# EAGLE library part SE4150L (library gps)
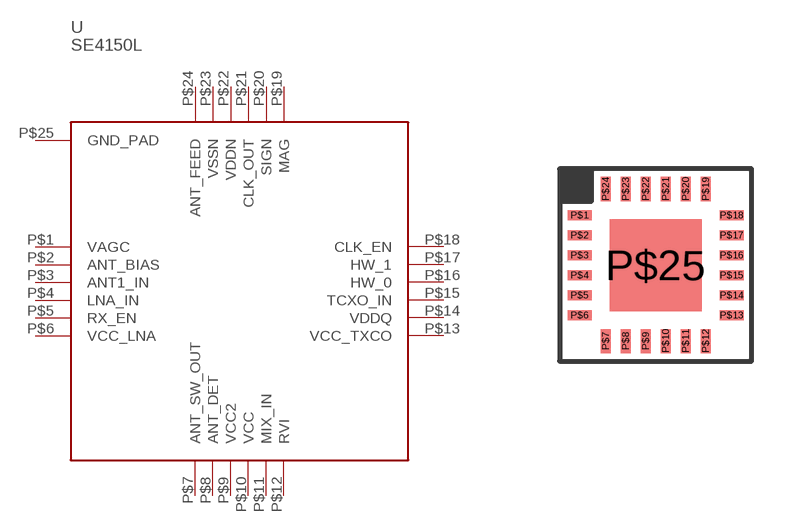
[diagram p1: symbol with the pads of QFN-25; footprint QFN-25]

Designator prefix -

## SE4150L  [QFN-25]
P$1  VAGC
P$2  ANT_BIAS
P$3  ANT1_IN
P$4  LNA_IN
P$5  RX_EN
P$6  VCC_LNA
P$7  ANT_SW_OUT
P$8  ANT_DET
P$9  VCC2
P$10  VCC
P$11  MIX_IN
P$12  RVI
P$13  VCC_TXCO
P$14  VDDQ
P$15  TCXO_IN
P$16  HW_0
P$17  HW_1
P$18  CLK_EN
P$19  MAG
P$20  SIGN
P$21  CLK_OUT
P$22  VDDN
P$23  VSSN
P$24  ANT_FEED
P$25  GND_PAD

## Footprint QFN-25 (pad centres in mm)
smd 0.6 x 0.25: P$1 0,0.15; P$2 0,-0.35; P$3 0,-0.85; P$4 0,-1.35; P$5 0,-1.85; P$6 0,-2.35; P$13 3.8,-2.35; P$14 3.8,-1.85; P$15 3.8,-1.35; P$16 3.8,-0.85; P$17 3.8,-0.35; P$18 3.8,0.15
smd 0.25 x 0.6: P$7 0.65,-3; P$8 1.15,-3; P$9 1.65,-3; P$10 2.15,-3; P$11 2.65,-3; P$12 3.15,-3; P$19 3.15,0.8; P$20 2.65,0.8; P$21 2.15,0.8; P$22 1.65,0.8; P$23 1.15,0.8; P$24 0.65,0.8
smd 2.3 x 2.3: P$25 1.9,-1.1